# Altium schematic symbol library A98335_conz.SchLib: 1 symbol
Pins are listed as number, name and electrical type; pins without a type are passive.

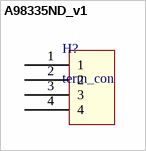
[diagram p0: symbol A98335ND_v1]

## A98335ND_v1
designator H?, comment term_con
footprint A98335-ND
pins: 1, 2, 3, 4